# EAGLE library part 55932-1230 (library relay_computer_custom)
12 pin- 2.00mm Pitch MicroClasp™ Wire-to-Board Header, Single Row, Vertical, without PCB Locator Source: http://www.molex.com/pdm_docs/sd/559321230_sd.pdf
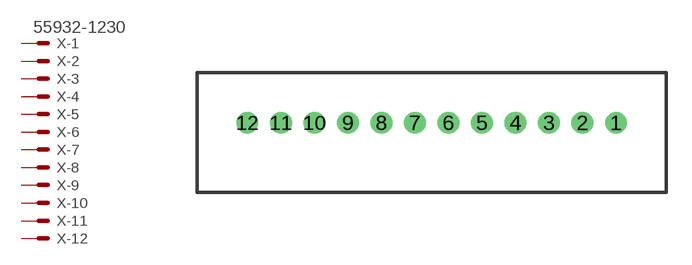
[diagram p4: symbol with the pads of 55932-1230; footprint 55932-1230]

Designator prefix X; gates -1=MV -3=M -2=M -4=M -5=M -6=M -7=M -8=M -9=M -10=M -11=M -12=M

## 55932-1230  [55932-1230]
1  -1:S  pas
2  -2:S  pas
3  -3:S  pas
4  -4:S  pas
5  -5:S  pas
6  -6:S  pas
7  -7:S  pas
8  -8:S  pas
9  -9:S  pas
10  -10:S  pas
11  -11:S  pas
12  -12:S  pas

## Footprint 55932-1230 (pad centres in mm)
12 Pin - 2mm Single Row Single Wafer, Vertical T/H HDR
drill 0.8: 1 11,0; 2 9,0; 3 7,0; 4 5,0; 5 3,0; 6 1,0; 7 -1,0; 8 -3,0; 9 -5,0; 10 -7,0; 11 -9,0; 12 -11,0